# EAGLE library part ATTINY85 (library Eagle3D-IC_Atmel)
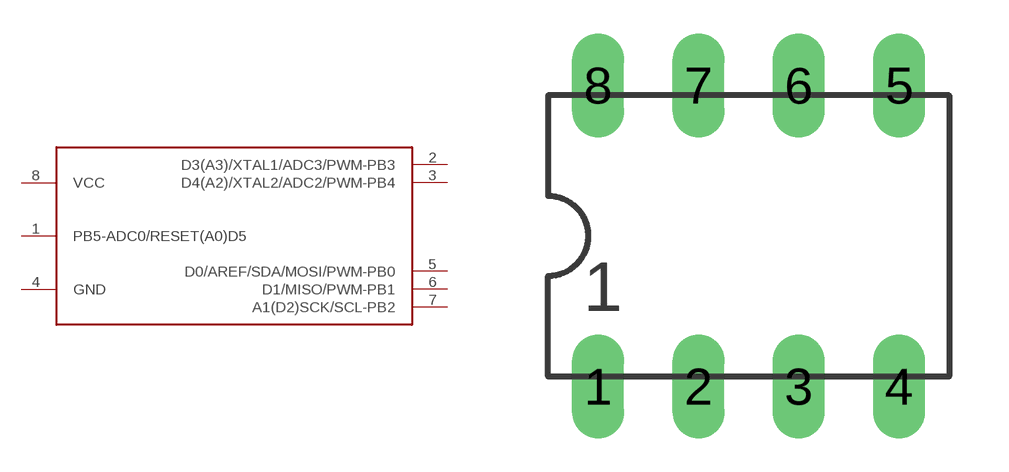
[diagram p0: symbol with the pads of DIL08; footprint DIL08]

Designator prefix IC

## ATTINY85  [DIL08]
1  PB5-ADC0/RESET(A0)D5
2  D3(A3)/XTAL1/ADC3/PWM-PB3
3  D4(A2)/XTAL2/ADC2/PWM-PB4
4  GND
5  D0/AREF/SDA/MOSI/PWM-PB0
6  D1/MISO/PWM-PB1
7  A1(D2)SCK/SCL-PB2
8  VCC

## Footprint DIL08 (pad centres in mm)
drill 0.813 pad 1.27 long: 1 -3.81,-3.81; 2 -1.27,-3.81; 3 1.27,-3.81; 4 3.81,-3.81; 5 3.81,3.81; 6 1.27,3.81; 7 -1.27,3.81; 8 -3.81,3.81